# EAGLE library part LTC3417 (library IC)
*Linear Tech LTC3417 Dual Sync. 1.4A/800mA 4MHz step-Down DC/DC Regulator
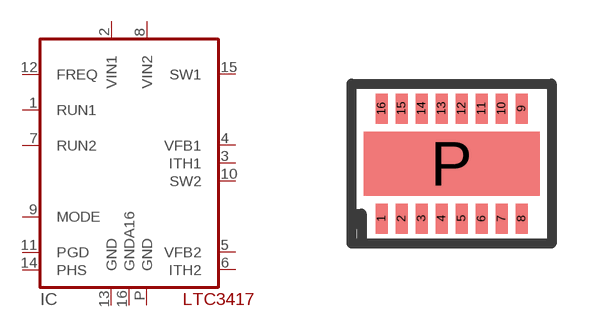
[diagram p106: symbol with the pads of DHC16; footprint DHC16]

Designator prefix IC

## LTC3417-DHC  [DHC16]
1  RUN1
2  VIN1  pwr
3  ITH1
4  VFB1
5  VFB2
6  ITH2
7  RUN2
8  VIN2  pwr
9  MODE
10  SW2  pwr
11  PGD
12  FREQ
13  GND  pwr
14  PHS
15  SW1  pwr
16  GNDA16  pwr
P  GND  pwr

## Footprint DHC16 (pad centres in mm)
Linear Tech DHC16 (LTC3417)
smd 0.3 x 0.75: 1 -1.75,-1.375; 2 -1.25,-1.375; 3 -0.75,-1.375; 4 -0.25,-1.375; 5 0.25,-1.375; 6 0.75,-1.375; 7 1.25,-1.375; 8 1.75,-1.375; 9 1.75,1.375; 10 1.25,1.375; 11 0.75,1.375; 12 0.25,1.375; 13 -0.25,1.375; 14 -0.75,1.375; 15 -1.25,1.375; 16 -1.75,1.375
smd 4.4 x 1.6: P 0,0